# Altium schematic symbol library ZX_MyLib.SchLib: 567 symbols (part 5 of 5)
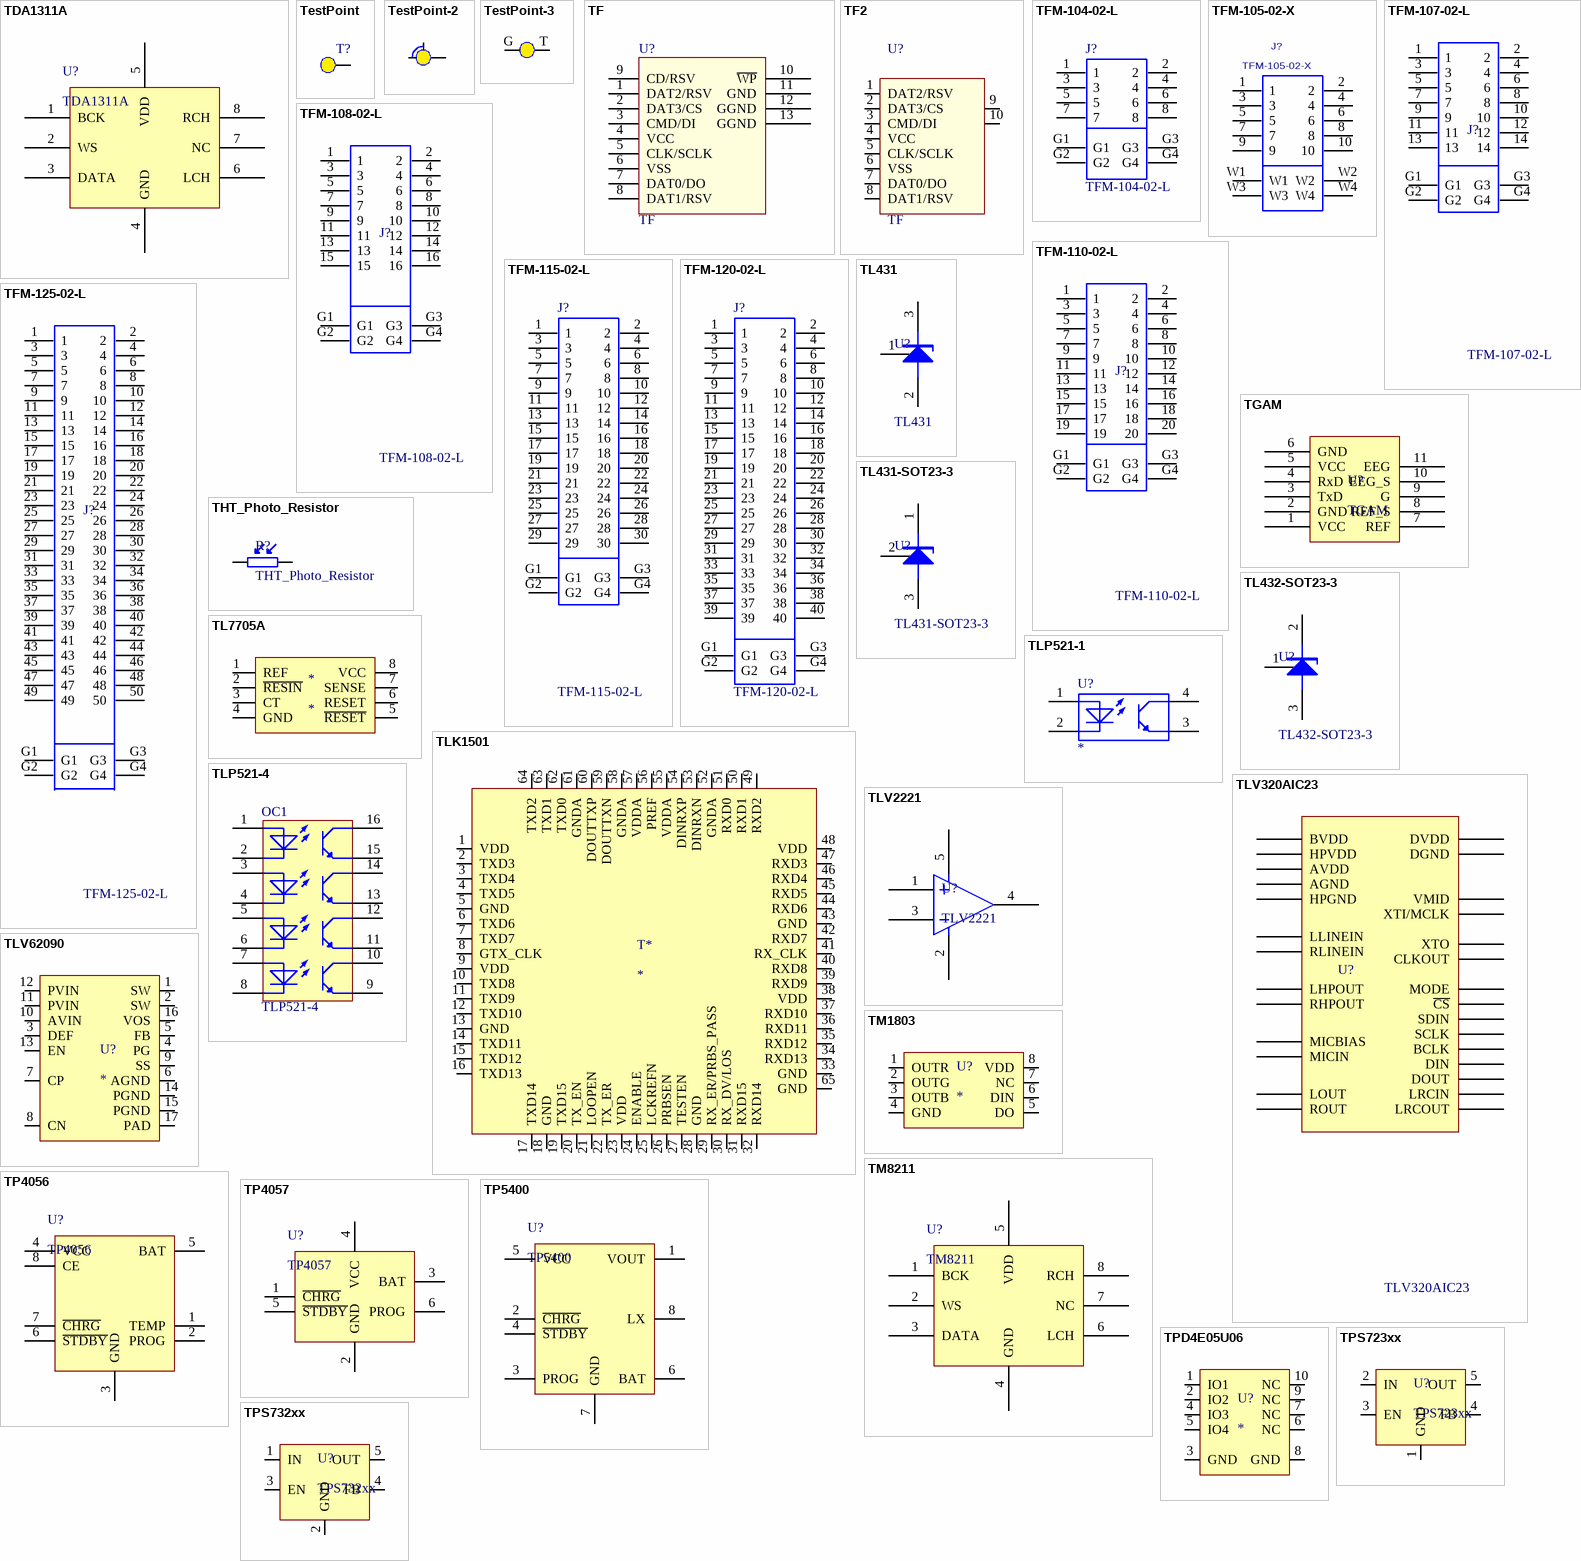
[diagram p34: symbols TDA1311A to TPS732xx]

## TM1803
designator U?
TM1803 / WS2811
footprint SOP-8_M (8-Pin Small Outline Integrated Circuit 1.27 mm Pitch, IPC Low Density)
footprint MSOP8
pins: 1 OUTR, 2 OUTG, 3 OUTB, 4 GND, 5 DO, 6 DIN, 7 NC, 8 VDD

## TM8211
designator U?
Stereo Continuous Calibration DAC
footprint SOP-8_N (8-Pin Small Outline Integrated Circuit 1.27 mm Pitch, IPC Medium Density)
footprint SOP-8_M (8-Pin Small Outline Integrated Circuit 1.27 mm Pitch, IPC Low Density)
footprint SOP-8_L (8-Pin Small Outline Integrated Circuit 1.27 mm Pitch, IPC High Density)
pins: 1 BCK "bit clock input", 2 WS "word select input", 3 DATA "data input", 4 GND "ground", 5 VDD "supply voltage", 6 LCH "left channel output", 7 NC "not connected", 8 RCH "right channel output"

## TP4056
designator U?
1A lithium-ion battery linear charger, LDO
footprint TP4056
pins: 1 TEMP, 2 PROG, 3 GND, 4 VCC, 5 BAT, 6 ~{STDBY}, 7 ~{CHRG}, 8 CE

## TP4057
designator U?
500mA lithium-ion battery linear charger, LDO
footprint SOT23-6 (SOT-457/SC-74; 6 Leads; Body 3 x 3 mm, inc. leads (LxW max))
pins: 1 ~{CHRG}, 2 GND, 3 BAT, 4 VCC, 5 ~{STDBY}, 6 PROG

## TP5400
designator U?
1A lithium-ion battery And  5V/1A Boost control IC, DC/DC
footprint TP5400 (TP5400 SOP8 With Pad)
pins: 1 VOUT, 2 ~{CHRG}, 3 PROG, 4 ~{STDBY}, 5 VCC, 6 BAT, 7 GND, 8 LX

## TPD4E05U06
designator U?
pins: 1 IO1, 2 IO2, 3 GND, 4 IO3, 5 IO4, 6 NC, 7 NC, 8 GND, 9 NC, 10 NC

## TPS723xx
designator U?
footprint TPS72301
pins: 1 GND, 2 IN, 3 EN, 4 FB, 5 OUT

## TPS732xx
designator U?
footprint TPS73201
pins: 1 IN, 2 GND, 3 EN, 4 FB, 5 OUT

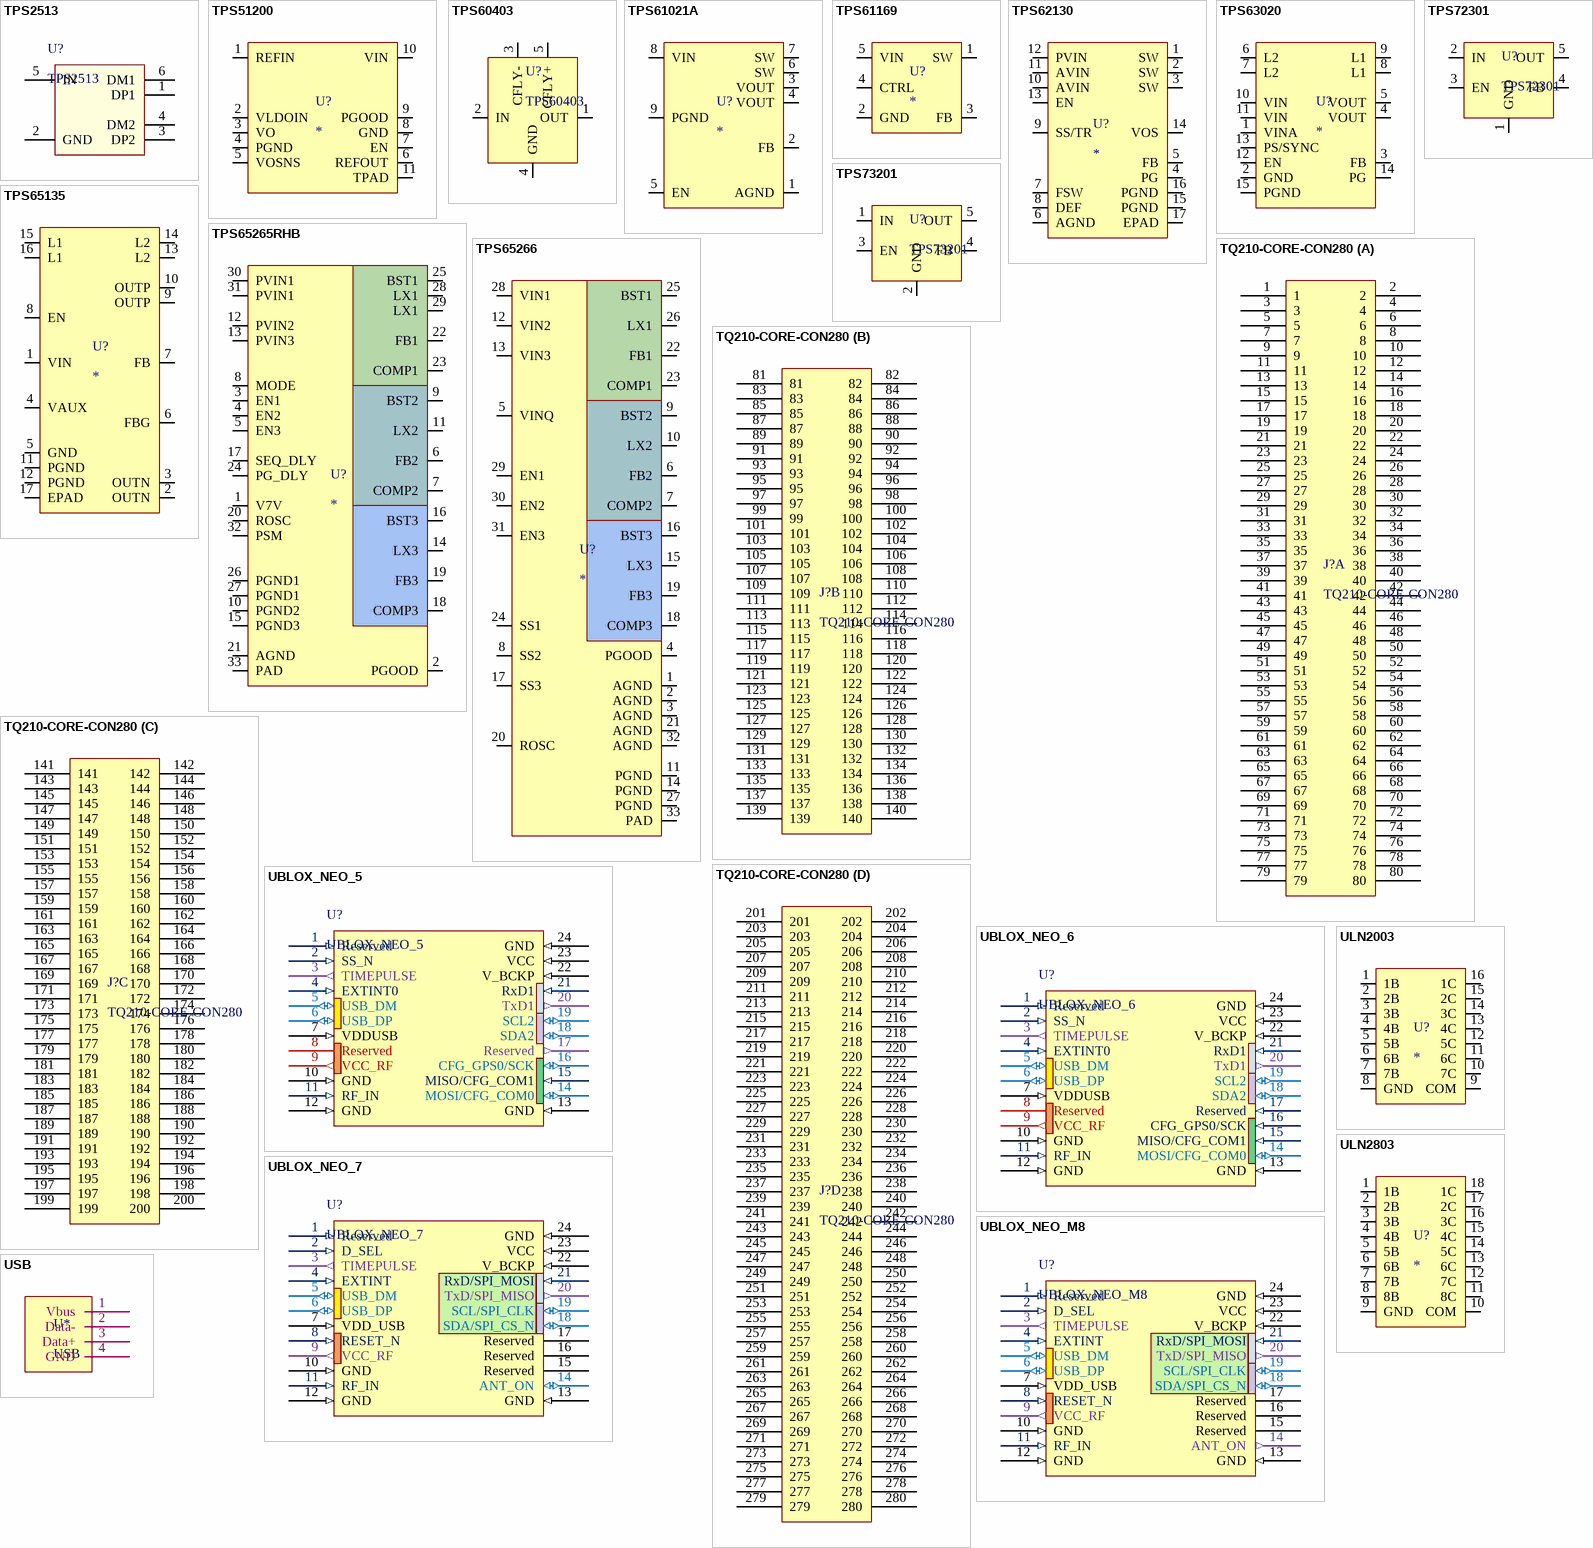
[diagram p28: symbols TPS2513 to USB]

## TPS2513
designator U?
USB Dedicated Charging Port Controller
footprint SOT23-6 (SOT-457/SC-74; 6 Leads; Body 3 x 3 mm, inc. leads (LxW max))
pins: 1 DP1, 2 GND, 3 DP2, 4 DM2, 5 IN, 6 DM1

## TPS51200
designator U?
footprint VSON-10 (3x3mm)
pins: 1 REFIN, 2 VLDOIN, 3 VO, 4 PGND, 5 VOSNS, 6 REFOUT, 7 EN, 8 GND, 9 PGOOD, 10 VIN, 11 TPAD

## TPS60403
designator U?
footprint TPS60403
pins: 1 OUT, 2 IN, 3 CFLY-, 4 GND, 5 CFLY+

## TPS61021A
designator U?
pins: 1 AGND, 2 FB, 3 VOUT, 4 VOUT, 5 EN, 6 SW, 7 SW, 8 VIN, 9 PGND

## TPS61169
designator U?
采用PWM控制的38V高电流升压WLED驱动器
footprint SOT23-5 (SOT-23/SC-74A; 5 Leads; Body 3 x 3 mm, inc. leads (LxW max))
footprint DCK-5
pins: 1 SW, 2 GND, 3 FB, 4 CTRL, 5 VIN

## TPS62130
designator U?
footprint QFN16
pins: 1 SW, 2 SW, 3 SW, 4 PG, 5 FB, 6 AGND, 7 FSW, 8 DEF, 9 SS/TR, 10 AVIN, 11 AVIN, 12 PVIN, 13 EN, 14 VOS, 15 PGND, 16 PGND, 17 EPAD

## TPS63020
designator U?
footprint VSON-14
pins: 1 VINA, 2 GND, 3 FB, 4 VOUT, 5 VOUT, 6 L2, 7 L2, 8 L1, 9 L1, 10 VIN, 11 VIN, 12 EN, 13 PS/SYNC, 14 PG, 15 PGND

## TPS65135
designator U?
footprint WQFN-16
pins: 1 VIN, 2 OUTN, 3 OUTN, 4 VAUX, 5 GND, 6 FBG, 7 FB, 8 EN, 9 OUTP, 10 OUTP, 11 PGND, 12 PGND, 13 L2, 14 L2, 15 L1, 16 L1, 17 EPAD

## TPS65265RHB
designator U?
footprint QFN32_N (32-Pin Quad Flat No-Lead 0.5 mm Pitch, IPC Medium Density)
pins: 1 V7V, 2 PGOOD, 3 EN1, 4 EN2, 5 EN3, 6 FB2, 7 COMP2, 8 MODE, 9 BST2, 10 PGND2, 11 LX2, 12 PVIN2, 13 PVIN3, 14 LX3, 15 PGND3, 16 BST3, 17 SEQ_DLY, 18 COMP3, 19 FB3, 20 ROSC, 21 AGND, 22 FB1, 23 COMP1, 24 PG_DLY, 25 BST1, 26 PGND1, 27 PGND1, 28 LX1, 29 LX1, 30 PVIN1, 31 PVIN1, 32 PSM, 33 PAD

## TPS65266
designator U?
footprint QFN32_N (32-Pin Quad Flat No-Lead 0.5 mm Pitch, IPC Medium Density)
pins: 1 AGND, 2 AGND, 3 AGND, 4 PGOOD, 5 VINQ, 6 FB2, 7 COMP2, 8 SS2, 9 BST2, 10 LX2, 11 PGND, 12 VIN2, 13 VIN3, 14 PGND, 15 LX3, 16 BST3, 17 SS3, 18 COMP3, 19 FB3, 20 ROSC, 21 AGND, 22 FB1, 23 COMP1, 24 SS1, 25 BST1, 26 LX1, 27 PGND, 28 VIN1, 29 EN1, 30 EN2, 31 EN3, 32 AGND, 33 PAD

## TPS72301
designator U?
footprint TPS72301
pins: 1 GND, 2 IN, 3 EN, 4 FB, 5 OUT

## TPS73201
designator U?
footprint TPS73201
pins: 1 IN, 2 GND, 3 EN, 4 FB, 5 OUT

## TQ210-CORE-CON280
designator J?
footprint TQ210-CORE-CON280
part A pins: 1, 2, 3, 4, 5, 6, 7, 8, 9, 10, 11, 12, 13, 14, 15, 16, 17, 18, 19, 20, 21, 22, 23, 24, 25, 26, 27, 28, 29, 30, 31, 32, 33, 34, 35, 36, 37, 38, 39, 40, 41, 42, 43, 44, 45, 46, 47, 48, 49, 50, 51, 52, 53, 54, 55, 56, 57, 58, 59, 60, 61, 62, 63, 64, 65, 66, 67, 68, 69, 70, 71, 72, 73, 74, 75, 76, 77, 78, 79, 80
part B pins: 81, 82, 83, 84, 85, 86, 87, 88, 89, 90, 91, 92, 93, 94, 95, 96, 97, 98, 99, 100, 101, 102, 103, 104, 105, 106, 107, 108, 109, 110, 111, 112, 113, 114, 115, 116, 117, 118, 119, 120, 121, 122, 123, 124, 125, 126, 127, 128, 129, 130, 131, 132, 133, 134, 135, 136, 137, 138, 139, 140
part C pins: 141, 142, 143, 144, 145, 146, 147, 148, 149, 150, 151, 152, 153, 154, 155, 156, 157, 158, 159, 160, 161, 162, 163, 164, 165, 166, 167, 168, 169, 170, 171, 172, 173, 174, 175, 176, 177, 178, 179, 180, 181, 182, 183, 184, 185, 186, 187, 188, 189, 190, 191, 192, 193, 194, 195, 196, 197, 198, 199, 200
part D pins: 201, 202, 203, 204, 205, 206, 207, 208, 209, 210, 211, 212, 213, 214, 215, 216, 217, 218, 219, 220, 221, 222, 223, 224, 225, 226, 227, 228, 229, 230, 231, 232, 233, 234, 235, 236, 237, 238, 239, 240, 241, 242, 243, 244, 245, 246, 247, 248, 249, 250, 251, 252, 253, 254, 255, 256, 257, 258, 259, 260, 261, 262, 263, 264, 265, 266, 267, 268, 269, 270, 271, 272, 273, 274, 275, 276, 277, 278, 279, 280

## UBLOX_NEO_5
designator U?
UBLOX NEO 5,6,7,M8 Module
footprint UBLOX-NEO (UBLOX GPS Module NEO 5,6,7,M8)
pins: 1 Reserved (in), 2 SS_N (in) "SPI Slave Select (Planned)", 3 TIMEPULSE (out) "Time pulse (1PPS)", 4 EXTINT0 (in) "External Interrupt Pin", 5 USB_DM (io) "USB Data", 6 USB_DP (io) "USB Data", 7 VDDUSB (in) "USB Supply", 8 Reserved "See Hardware Integration Manual, Pin 8 and 9 must be connected together.", 9 VCC_RF (out) "Output Voltage RF section, Pin 8 and 9 must be connected together.", 10 GND (in) "Ground", 11 RF_IN (in) "GPS signal input", 12 GND (in) "Ground", 13 GND (in) "Ground", 14 MOSI/CFG_COM0 (io) "SPI MOSI / Configuration Pin (Planned)", 15 MISO/CFG_COM1 (in) "SPI MISO (Planned) / Configuration Pin. Leave open if not used.", 16 CFG_GPS0/SCK (io) "Power Mode Configuration Pin. SPI Clock(Planned)", 17 Reserved (out) "Not Connected", 18 SDA2 (io) "DDC Data", 19 SCL2 (io) "DDC Clock", 20 TxD1 (out) "Serial Port 1", 21 RxD1 (in) "Serial Port 1", 22 V_BCKP (in) "Backup voltage supply", 23 VCC (in) "Supply voltage", 24 GND (in) "Ground"

## UBLOX_NEO_6
designator U?
UBLOX NEO 5,6,7,M8 Module
footprint UBLOX-NEO (UBLOX GPS Module NEO 5,6,7,M8)
pins: 1 Reserved (in), 2 SS_N (in) "SPI Slave Select", 3 TIMEPULSE (out) "Timepulse (1PPS)", 4 EXTINT0 (in) "External Interrupt Pin", 5 USB_DM (io) "USB Data", 6 USB_DP (io) "USB Data", 7 VDDUSB (in) "USB Supply", 8 Reserved "See Hardware Integration Manual, Pin 8 and 9 must be connected together.", 9 VCC_RF (out) "Output Voltage RF section, Pin 8 and 9 must be connected together.", 10 GND (in) "Ground", 11 RF_IN (in) "GPS signal input", 12 GND (in) "Ground", 13 GND (in) "Ground", 14 MOSI/CFG_COM0 (io) "SPI MOSI / Configuration Pin. Leave open if not used.", 15 MISO/CFG_COM1 (in) "SPI MISO / Configuration Pin. Leave open if not used.", 16 CFG_GPS0/SCK (in) "Power Mode Configuration Pin / SPI Clock. Leave open if not used.", 17 Reserved (in), 18 SDA2 (io) "DDC Data", 19 SCL2 (io) "DDC Clock", 20 TxD1 (out) "Serial Port 1", 21 RxD1 (in) "Serial Port 1", 22 V_BCKP (in) "Backup voltage supply", 23 VCC (in) "Supply voltage", 24 GND (in) "Ground"

## UBLOX_NEO_7
designator U?
UBLOX NEO 5,6,7,M8 Module
footprint UBLOX-NEO (UBLOX GPS Module NEO 5,6,7,M8)
pins: 1 Reserved (in), 2 D_SEL (in) "Interface select", 3 TIMEPULSE (out) "Time pulse (1PPS)", 4 EXTINT (in) "External Interrupt Pin", 5 USB_DM (io) "USB Data", 6 USB_DP (io) "USB Data", 7 VDD_USB (in) "USB Supply", 8 RESET_N (in), 9 VCC_RF (out) "Output Voltage RF section", 10 GND (in) "Ground", 11 RF_IN (in) "GNSS signal input", 12 GND (in) "Ground", 13 GND (in) "Ground", 14 ANT_ON (io) "Antenna control", 15 Reserved, 16 Reserved, 17 Reserved, 18 SDA/SPI_CS_N (io) "DDC Data if D_SEL =1 (or open) SPI Chip Select if D_SEL = 0", 19 SCL/SPI_CLK (io) "DDC Clock if D_SEL =1(or open) SPI Clock if D_SEL = 0", 20 TxD/SPI_MISO (out) "Serial Port if D_SEL =1(or open) SPI MISO if D_SEL = 0", 21 RxD/SPI_MOSI (in) "Serial Port if D_SEL =1(or open) SPI MOSI if D_SEL = 0", 22 V_BCKP (in) "Backup voltage supply", 23 VCC (in) "Supply voltage", 24 GND (in) "Ground"

## UBLOX_NEO_M8
designator U?
UBLOX NEO 5,6,7,M8 Module
footprint UBLOX-NEO (UBLOX GPS Module NEO 5,6,7,M8)
pins: 1 Reserved (in), 2 D_SEL (in) "Interface select", 3 TIMEPULSE (out) "Time pulse (1PPS)", 4 EXTINT (in) "External Interrupt Pin", 5 USB_DM (io) "USB Data", 6 USB_DP (io) "USB Data", 7 VDD_USB (in) "USB Supply", 8 RESET_N (in), 9 VCC_RF (out) "Output Voltage RF section", 10 GND (in) "Ground", 11 RF_IN (in) "GNSS signal input", 12 GND (in) "Ground", 13 GND (in) "Ground", 14 ANT_ON (out) "Antenna control", 15 Reserved, 16 Reserved, 17 Reserved, 18 SDA/SPI_CS_N (io) "DDC Data if D_SEL =1 (or open) SPI Chip Select if D_SEL = 0", 19 SCL/SPI_CLK (io) "DDC Clock if D_SEL =1(or open) SPI Clock if D_SEL = 0", 20 TxD/SPI_MISO (out) "Serial Port if D_SEL =1(or open) SPI MISO if D_SEL = 0", 21 RxD/SPI_MOSI (in) "Serial Port if D_SEL =1(or open) SPI MOSI if D_SEL = 0", 22 V_BCKP (in) "Backup voltage supply", 23 VCC (in) "Supply voltage", 24 GND (in) "Ground"

## ULN2003
designator U?
footprint SOP-16 - duplicate (16-Pin Small Outline Integrated Circuit 1.27 mm Pitch, IPC Low Density)
pins: 1 1B, 2 2B, 3 3B, 4 4B, 5 5B, 6 6B, 7 7B, 8 GND, 9 COM, 10 7C, 11 6C, 12 5C, 13 4C, 14 3C, 15 2C, 16 1C

## ULN2803
designator U?
pins: 1 1B, 2 2B, 3 3B, 4 4B, 5 5B, 6 6B, 7 7B, 8 8B, 9 GND, 10 COM, 11 8C, 12 7C, 13 6C, 14 5C, 15 4C, 16 3C, 17 2C, 18 1C

## USB
designator U*
footprint USB-B
footprint USB-A 180D
pins: 1 Vbus, 2 Data-, 3 Data+, 4 GND

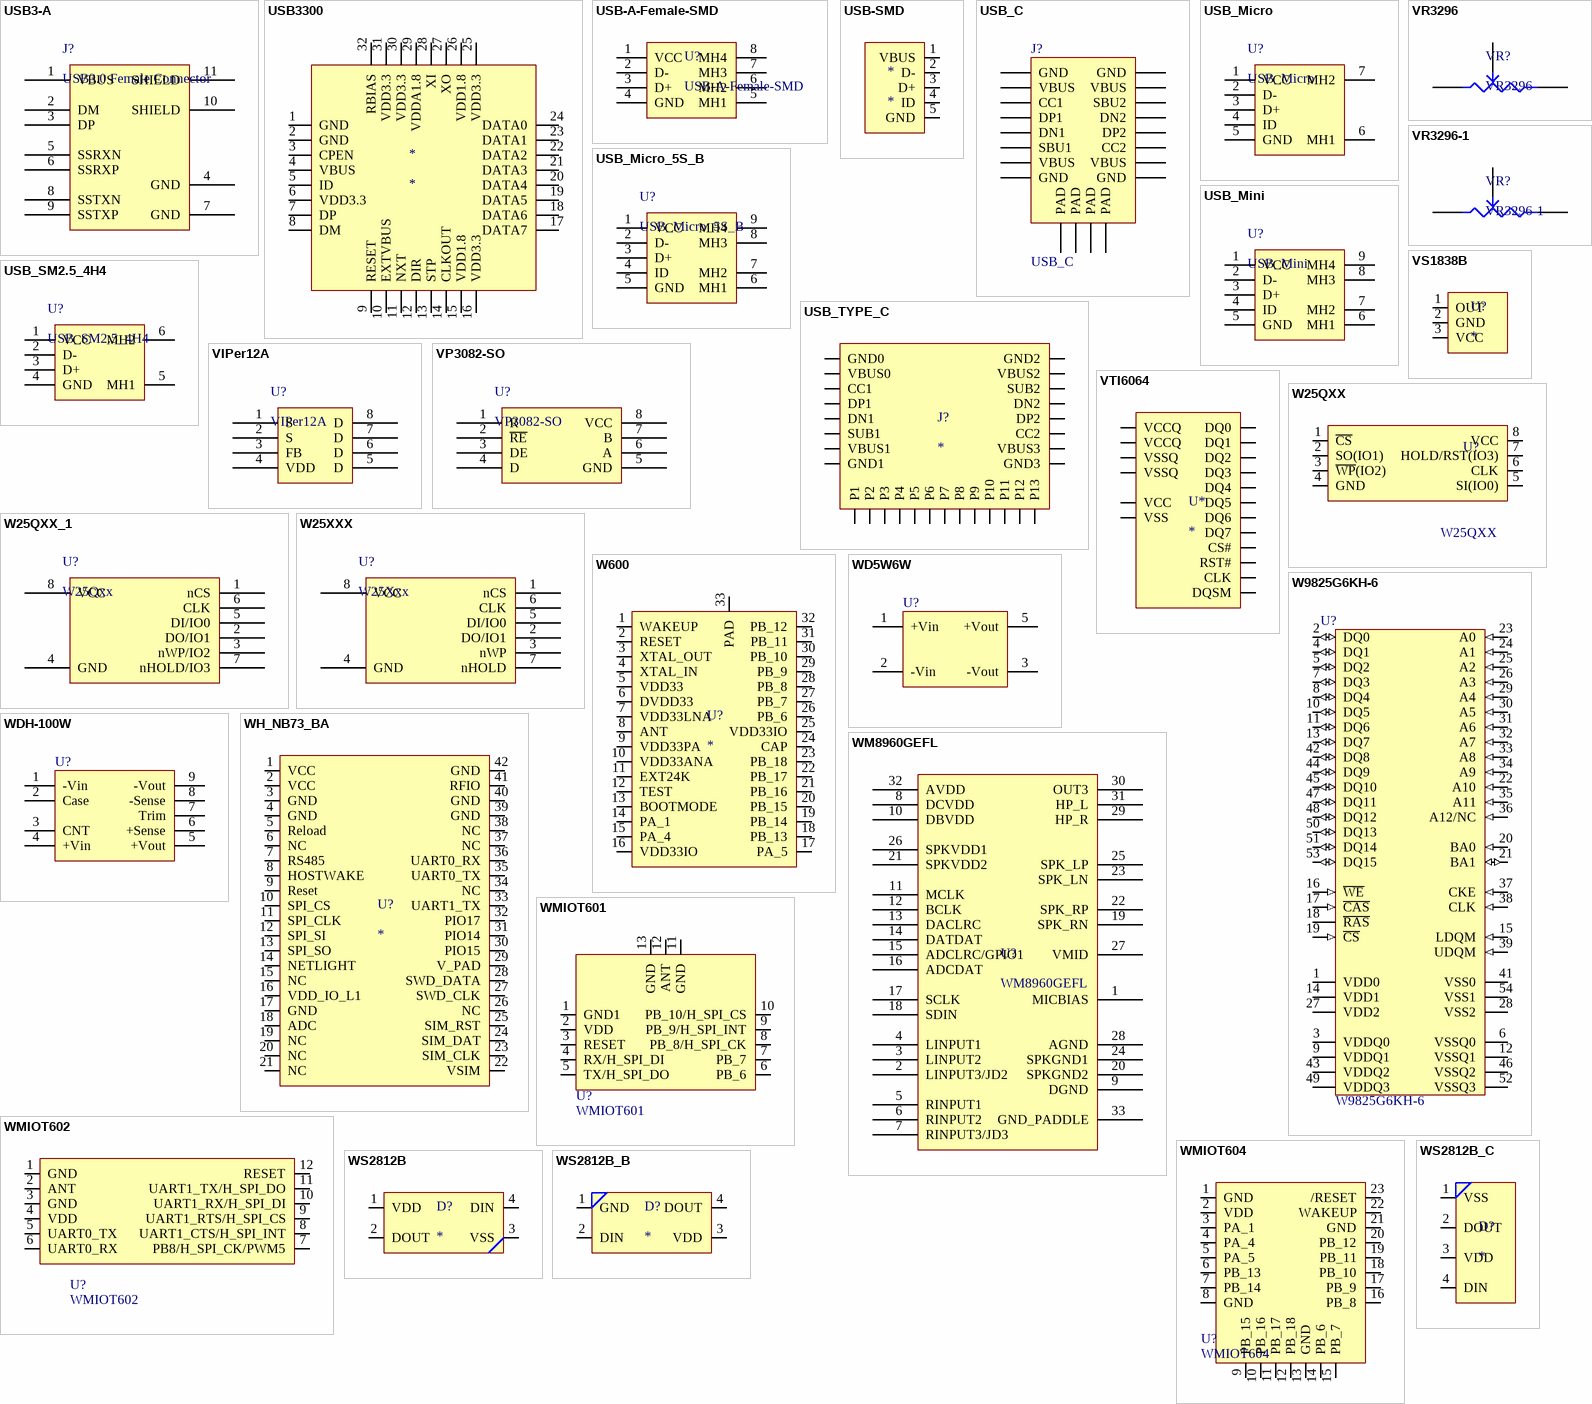
[diagram p29: symbols USB3-A to WS2812B_C]

## USB3-A
designator J?, comment USB3.0 Female Connector
footprint USB3-A (USB3.0 Connector)
pins: 1 VBUS, 2 DM, 3 DP, 4 GND, 5 SSRXN, 6 SSRXP, 7 GND, 8 SSTXN, 9 SSTXP, 10 SHIELD, 11 SHIELD

## USB3300
designator *
footprint QFN32
pins: 1 GND, 2 GND, 3 CPEN, 4 VBUS, 5 ID, 6 VDD3.3, 7 DP, 8 DM, 9 RESET, 10 EXTVBUS, 11 NXT, 12 DIR, 13 STP, 14 CLKOUT, 15 VDD1.8, 16 VDD3.3, 17 DATA7, 18 DATA6, 19 DATA5, 20 DATA4, 21 DATA3, 22 DATA2, 23 DATA1, 24 DATA0, 25 VDD3.3, 26 VDD1.8, 27 XO, 28 XI, 29 VDDA1.8, 30 VDD3.3, 31 VDD3.3, 32 RBIAS

## USB-A-Female-SMD
designator U?
footprint USB-A-SMD
pins: 1 VCC, 2 D-, 3 D+, 4 GND, 5 MH1, 6 MH2, 7 MH3, 8 MH4

## USB-SMD
designator *
footprint USB-MINI
pins: 1 VBUS, 2 D-, 3 D+, 4 ID, 5 GND

## USB_C
designator J?
USB type C 3.1 connector
footprint USB_C_U262-16XN-4BVC11 (U262-16XN-4BVC11 USB TYPE-C FEMALE)
pins: 0 PAD, 1 PAD, 2 PAD, 3 PAD, A1 GND, A4 VBUS, A5 CC1, A6 DP1, A7 DN1, A8 SBU1, A9 VBUS, A12 GND, B1 GND, B4 VBUS, B5 CC2, B6 DP2, B7 DN2, B8 SBU2, B9 VBUS, B12 GND

## USB_Micro
designator U?
USB micro female
footprint USB_Micro_Reverse (Micro USB Dock 5 Pin Reverse)
footprint USB_Micro_Standard (Micro USB Dock 5 Pin Standard)
pins: 1 VCC, 2 D-, 3 D+, 4 ID, 5 GND, 6 MH1, 7 MH2

## USB_Micro_5S_B
designator U?
USB micro female SMT with 4 fixed foot
footprint USB_MICRO_5S_B (USB Micro SMT 5S B)
footprint USB_MICRO_SMT_2PIN (USB MICRO SMT 2PIN)
pins: 1 VCC, 2 D-, 3 D+, 4 ID, 5 GND, 6 MH1, 7 MH2, 8 MH3, 9 MH4

## USB_Mini
designator U?
USB mini female
footprint USB_MINI1 (USB Mini SMT)
pins: 1 VCC, 2 D-, 3 D+, 4 ID, 5 GND, 6 MH1, 7 MH2, 8 MH3, 9 MH4

## USB_SM2.5_4H4
designator U?
USB SM2.5-4H4 Connector
footprint USB_SM2.5_4H4 (Connector; USB1.1, Type A, SM; 4 Position; Right Angle)
pins: 1 VCC, 2 D-, 3 D+, 4 GND, 5 MH1, 6 MH2

## USB_TYPE_C
designator J?
footprint USB_TYPE_C
footprint USB_TYPE_C_SMD (表贴)
pins: A1 GND0, A4 VBUS0, A5 CC1, A6 DP1, A7 DN1, A8 SUB1, A9 VBUS1, A12 GND1, B1 GND3, B4 VBUS3, B5 CC2, B6 DP2, B7 DN2, B8 SUB2, B9 VBUS2, B12 GND2, P1, P2, P3, P4, P5, P6, P7, P8, P9, P10, P11, P12, P13

## VIPer12A
designator U?
VIPer12A   September 2002  1/15 VIPer12ADIPVIPer12AS  LOW POWER OFF LINE SMPS PRIMARY SWITCHER
footprint VIPer12A-DIP8 (VIPer12A)
pins: 1 S, 2 S, 3 FB, 4 VDD, 5 D, 6 D, 7 D, 8 D

## VP3082-SO
designator U?
footprint VP3082-485 (485)
pins: 1 R, 2 ~{RE}, 3 DE, 4 D, 5 GND, 6 A, 7 B, 8 VCC

## VR3296
designator VR?
footprint VR3296
pins: 1 A, 2 B, W TAP

## VR3296-1
designator VR?
footprint VR3296-1
pins: 1 A, 2 B, W TAP

## VS1838B
designator U?
footprint vs1838b
pins: 1 OUT, 2 GND, 3 VCC

## VTI6064
designator U*
footprint FBGA24
pins: A3 CS#, A4 RST#, B2 CLK, B3 VSS, B4 VCC, C1 VSSQ, C3 DQSM, C4 DQ2, D1 VCCQ, D2 DQ1, D3 DQ0, D4 DQ3, D5 DQ4, E1 DQ7, E2 DQ6, E3 DQ5, E4 VCCQ, E5 VSSQ

## W25QXX
designator U?
footprint SOIC-8 (SOIC)
footprint WSON8 (WSON8 8-Leads, Body 6.1x8.1mm (max), Pitch 1.27mm, IPC Medium Density)
pins: 1 ~{CS}, 2 SO(IO1), 3 ~{WP}(IO2), 4 GND, 5 SI(IO0) (power), 6 CLK, 7 HOLD/RST(IO3) (power), 8 VCC

## W25QXX_1
designator U?, comment W25Qxx
Serial flash memory with dual and quad SPI
footprint WSOP-8 (8-Pin Small Outline Package 1.27 mm Pitch, IPC Medium Density)
footprint DIP-8 (DIP8封装，100mil间距，300mil引脚宽度)
footprint SOP-8 (8-Pin Small Outline Integrated Circuit 1.27 mm Pitch, IPC Low Density)
footprint USON-8N
pins: 1 nCS "Chip Select Input", 2 DO/IO1 "Data Output (Data Input Output 1)", 3 nWP/IO2 "Write Protect Input ( Data Input Output 2)", 4 GND, 5 DI/IO0 "Data Input (Data Input Output 0)", 6 CLK "Serial Clock Input", 7 nHOLD/IO3 "Hold Input (Data Input Output 3)", 8 VCC

## W25XXX
designator U?, comment W25Xxx
Serial flash memory with 4kB sectors and dual I/O SPI
footprint DIP-8 (DIP8封装，100mil间距，300mil引脚宽度)
footprint SOP-8 (8-Pin Small Outline Integrated Circuit 1.27 mm Pitch, IPC Low Density)
footprint USON-8N
footprint WSOP-8 (8-Pin Small Outline Package 1.27 mm Pitch, IPC Medium Density)
pins: 1 nCS "Chip Select Input", 2 DO/IO1 "Data Output (Data Input Output 1)", 3 nWP "Write Protect Input", 4 GND, 5 DI/IO0 "Data Input (Data Input Output 0)", 6 CLK "Serial Clock Input", 7 nHOLD "Hold Input", 8 VCC

## W600
designator U?
footprint QFN32_N (32-Pin Quad Flat No-Lead 0.5 mm Pitch, IPC Medium Density)
pins: 1 WAKEUP, 2 RESET, 3 XTAL_OUT, 4 XTAL_IN, 5 VDD33, 6 DVDD33, 7 VDD33LNA, 8 ANT, 9 VDD33PA, 10 VDD33ANA, 11 EXT24K, 12 TEST, 13 BOOTMODE, 14 PA_1, 15 PA_4, 16 VDD33IO, 17 PA_5, 18 PB_13, 19 PB_14, 20 PB_15, 21 PB_16, 22 PB_17, 23 PB_18, 24 CAP, 25 VDD33IO, 26 PB_6, 27 PB_7, 28 PB_8, 29 PB_9, 30 PB_10, 31 PB_11, 32 PB_12, 33 PAD

## W9825G6KH-6
designator U?
32MB SDRAM
footprint TSOP54
pins: 1 VDD0 (power), 2 DQ0 (io), 3 VDDQ0 (power), 4 DQ1 (io), 5 DQ2 (io), 6 VSSQ0 (power), 7 DQ3 (io), 8 DQ4 (io), 9 VDDQ1 (power), 10 DQ5 (io), 11 DQ6 (io), 12 VSSQ1 (power), 13 DQ7 (io), 14 VDD1 (power), 15 LDQM (in), 16 ~{WE} (in), 17 ~{CAS} (in), 18 ~{RAS}, 19 ~{CS} (in), 20 BA0 (in), 21 BA1 (io), 22 A10 (in), 23 A0 (in), 24 A1 (in), 25 A2 (in), 26 A3 (in), 27 VDD2 (power), 28 VSS2 (power), 29 A4 (in), 30 A5 (in), 31 A6 (in), 32 A7 (in), 33 A8 (in), 34 A9 (in), 35 A11 (in), 36 A12/NC (in), 37 CKE (in), 38 CLK (in), 39 UDQM (in), 41 VSS0 (power), 42 DQ8 (io), 43 VDDQ2 (power), 44 DQ9 (io), 45 DQ10 (io), 46 VSSQ2 (power), 47 DQ11 (io), 48 DQ12 (io), 49 VDDQ3 (power), 50 DQ13 (io), 51 DQ14 (io), 52 VSSQ3 (power), 53 DQ15 (io), 54 VSS1 (power)
2 alternate drawings of the same symbol

## WD5W6W
designator U?
footprint WD5W6W
pins: 1 +Vin, 2 -Vin, 3 -Vout, 5 +Vout

## WDH-100W
designator U?
footprint WDH-100W
pins: 1 -Vin, 2 Case, 3 CNT, 4 +Vin, 5 +Vout, 6 +Sense, 7 Trim, 8 -Sense, 9 -Vout

## WH_NB73_BA
designator U?
footprint WH_NB73_BA (Footprint not found)
pins: 1 VCC, 2 VCC, 3 GND, 4 GND, 5 Reload, 6 NC, 7 RS485, 8 HOSTWAKE, 9 Reset, 10 SPI_CS, 11 SPI_CLK, 12 SPI_SI, 13 SPI_SO, 14 NETLIGHT, 15 NC, 16 VDD_IO_L1, 17 GND, 18 ADC, 19 NC, 20 NC, 21 NC, 22 VSIM, 23 SIM_CLK, 24 SIM_DAT, 25 SIM_RST, 26 NC, 27 SWD_CLK, 28 SWD_DATA, 29 V_PAD, 30 PIO15, 31 PIO14, 32 PIO17, 33 UART1_TX, 34 NC, 35 UART0_TX, 36 UART0_RX, 37 NC, 38 NC, 39 GND, 40 GND, 41 RFIO, 42 GND

## WM8960GEFL
designator U?
Stereo CODEC with 1W Stereo Class D Speaker Drivers and  Headphone Drivers for Portable Audio Applications
footprint WM8960GEFL
pins: 1 MICBIAS, 2 LINPUT3/JD2, 3 LINPUT2, 4 LINPUT1, 5 RINPUT1, 6 RINPUT2, 7 RINPUT3/JD3, 8 DCVDD, 9 DGND, 10 DBVDD, 11 MCLK, 12 BCLK, 13 DACLRC, 14 DATDAT, 15 ADCLRC/GPIO1, 16 ADCDAT, 17 SCLK, 18 SDIN, 19 SPK_RN, 20 SPKGND2, 21 SPKVDD2, 22 SPK_RP, 23 SPK_LN, 24 SPKGND1, 25 SPK_LP, 26 SPKVDD1, 27 VMID, 28 AGND, 29 HP_R, 30 OUT3, 31 HP_L, 32 AVDD, 33 GND_PADDLE

## WMIOT601
designator U?
footprint WMIOT601
pins: 1 GND1, 2 VDD, 3 RESET, 4 RX/H_SPI_DI, 5 TX/H_SPI_DO, 6 PB_6, 7 PB_7, 8 PB_8/H_SPI_CK, 9 PB_9/H_SPI_INT, 10 PB_10/H_SPI_CS, 11 GND, 12 ANT, 13 GND

## WMIOT602
designator U?
footprint WMIOT602
pins: 1 GND, 2 ANT, 3 GND, 4 VDD, 5 UART0_TX, 6 UART0_RX, 7 PB8/H_SPI_CK/PWM5, 8 UART1_CTS/H_SPI_INT, 9 UART1_RTS/H_SPI_CS, 10 UART1_RX/H_SPI_DI, 11 UART1_TX/H_SPI_DO, 12 RESET

## WMIOT604
designator U?
footprint WMIOT604
pins: 1 GND, 2 VDD, 3 PA_1, 4 PA_4, 5 PA_5, 6 PB_13, 7 PB_14, 8 GND, 9 PB_15, 10 PB_16, 11 PB_17, 12 PB_18, 13 GND, 14 PB_6, 15 PB_7, 16 PB_8, 17 PB_9, 18 PB_10, 19 PB_11, 20 PB_12, 21 GND, 22 WAKEUP, 23 /RESET

## WS2812B
designator D?
footprint WS2812B (WS2812B，与SK6812封装通用)
pins: 1 VDD, 2 DOUT, 3 VSS, 4 DIN

## WS2812B_B
designator D?
封装管脚开口方向
footprint WS2812B_3535 (WS2812B-3535封装)
pins: 1 GND, 2 DIN, 3 VDD, 4 DOUT

## WS2812B_C
designator D?
封装管脚开口方向,4020封装，立式侧发光
footprint WS2812B_4020 (4020侧发光全彩RGB发光管)
pins: 1 VSS, 2 DOUT, 3 VDD, 4 DIN

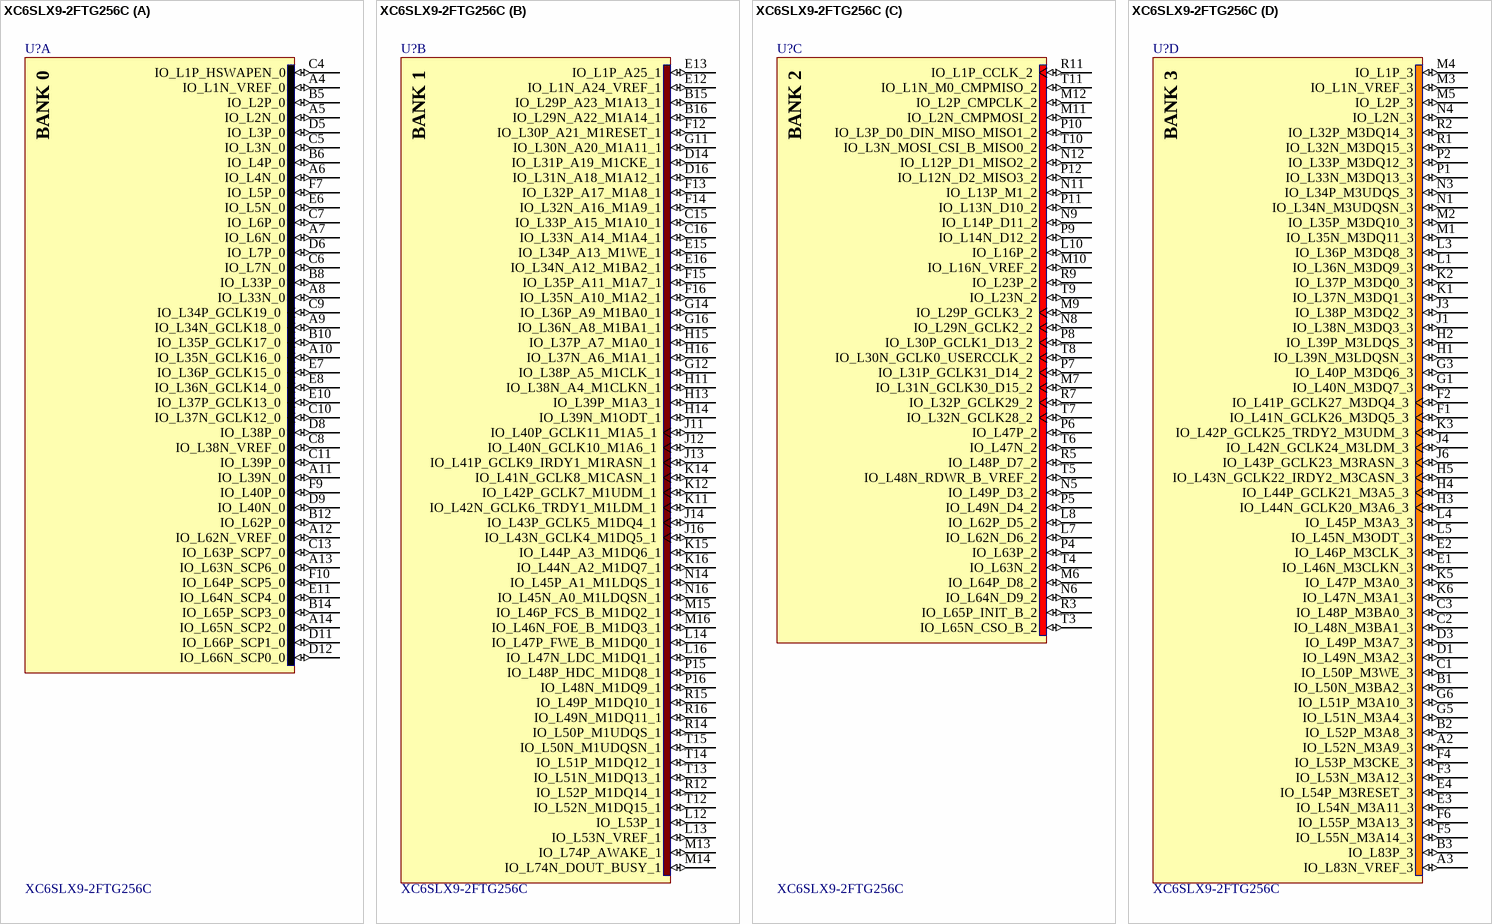
[diagram p30: symbol XC6SLX9-2FTG256C]

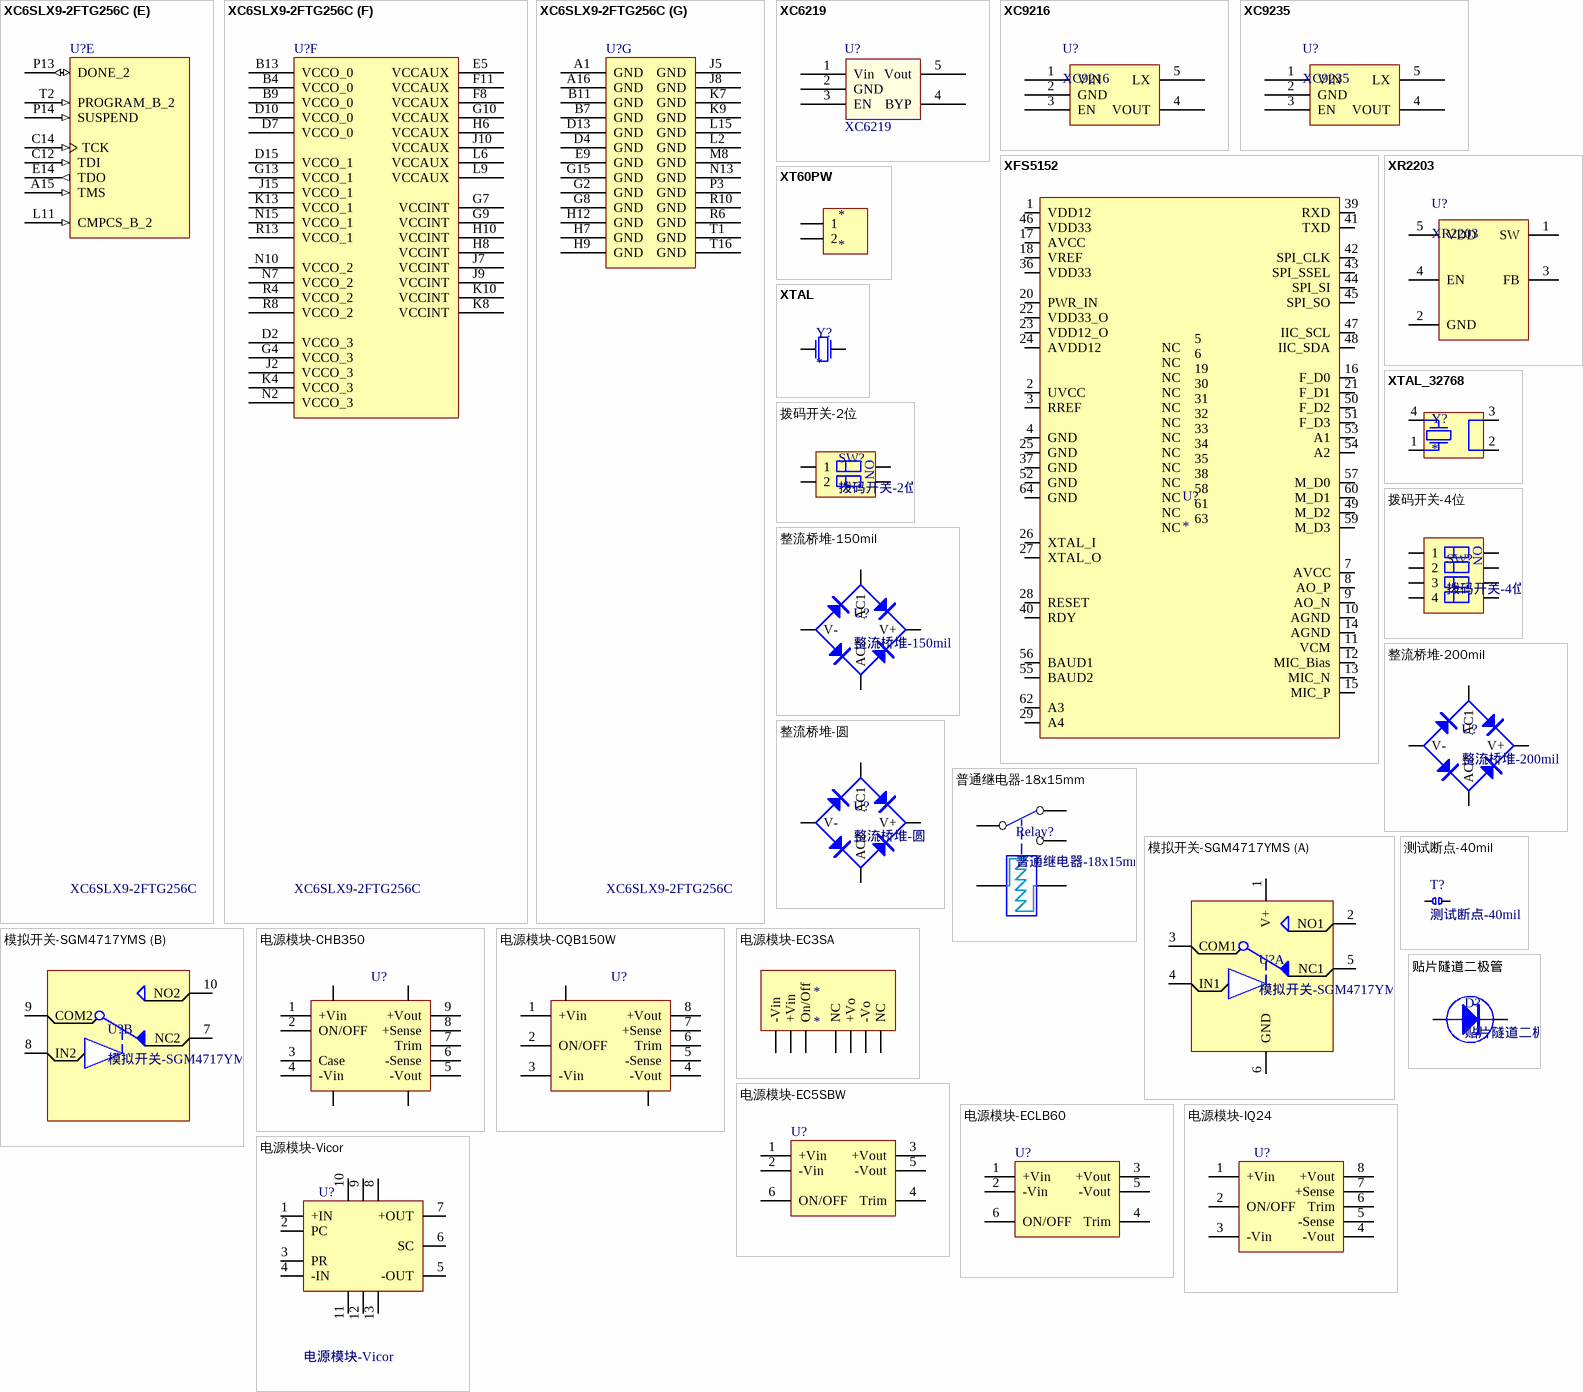
[diagram p31: symbols XC6SLX9-2FTG256C to 贴片隧道二极管]

## XC6SLX9-2FTG256C
designator U?
Spartan-6 LX 1.2V FPGA, 186 User I/Os, 256-Ball Fine-Pitch Thin BGA (1.0mm Pitch), Speed Grade 2, Commercial Grade, Pb-Free; DatasheetVersion: ver1.6, Nov-2010; PackageVersion: ver1.3, Oct-2007; PackageReference: FTG256; PackageDescription: 256-Ball Fine Pitch Thin Ball Grid Array 1.00 mm Pitch (FTG256) - Pb-Free; Code_JEDEC: MS-034-AAF-1*; ComponentLink1Description: Manufacturer URL; ComponentLink1URL: http://www.xilinx.com/; ComponentLink2Description: Spartan-6 Datasheet; ComponentLink2URL: http://www.xilinx.com/support/documentation/data_sheets/ds160.pdf; ComponentLink3Description: Spartan-6 Documents; ComponentLink3URL: http://www.xilinx.com/support/documentation/spartan-6.htm
footprint FTG256 (BGA, 256-Leads, Body 17x17mm, Pitch 1mm)
part A pins: A4 IO_L1N_VREF_0 (io), A5 IO_L2N_0 (io), A6 IO_L4N_0 (io), A7 IO_L6N_0 (io), A8 IO_L33N_0 (io), A9 IO_L34N_GCLK18_0 (io), A10 IO_L35N_GCLK16_0 (io), A11 IO_L39N_0 (io), A12 IO_L62N_VREF_0 (io), A13 IO_L63N_SCP6_0 (io), A14 IO_L65N_SCP2_0 (io), B5 IO_L2P_0 (io), B6 IO_L4P_0 (io), B8 IO_L33P_0 (io), B10 IO_L35P_GCLK17_0 (io), B12 IO_L62P_0 (io), B14 IO_L65P_SCP3_0 (io), C4 IO_L1P_HSWAPEN_0 (io), C5 IO_L3N_0 (io), C6 IO_L7N_0 (io), C7 IO_L6P_0 (io), C8 IO_L38N_VREF_0 (io), C9 IO_L34P_GCLK19_0 (io), C10 IO_L37N_GCLK12_0 (io), C11 IO_L39P_0 (io), C13 IO_L63P_SCP7_0 (io), D5 IO_L3P_0 (io), D6 IO_L7P_0 (io), D8 IO_L38P_0 (io), D9 IO_L40N_0 (io), D11 IO_L66P_SCP1_0 (io), D12 IO_L66N_SCP0_0 (io), E6 IO_L5N_0 (io), E7 IO_L36P_GCLK15_0 (io), E8 IO_L36N_GCLK14_0 (io), E10 IO_L37P_GCLK13_0 (io), E11 IO_L64N_SCP4_0 (io), F7 IO_L5P_0 (io), F9 IO_L40P_0 (io), F10 IO_L64P_SCP5_0 (io)
part B pins: B15 IO_L29P_A23_M1A13_1 (io), B16 IO_L29N_A22_M1A14_1 (io), C15 IO_L33P_A15_M1A10_1 (io), C16 IO_L33N_A14_M1A4_1 (io), D14 IO_L31P_A19_M1CKE_1 (io), D16 IO_L31N_A18_M1A12_1 (io), E12 IO_L1N_A24_VREF_1 (io), E13 IO_L1P_A25_1 (io), E15 IO_L34P_A13_M1WE_1 (io), E16 IO_L34N_A12_M1BA2_1 (io), F12 IO_L30P_A21_M1RESET_1 (io), F13 IO_L32P_A17_M1A8_1 (io), F14 IO_L32N_A16_M1A9_1 (io), F15 IO_L35P_A11_M1A7_1 (io), F16 IO_L35N_A10_M1A2_1 (io), G11 IO_L30N_A20_M1A11_1 (io), G12 IO_L38P_A5_M1CLK_1 (io), G14 IO_L36P_A9_M1BA0_1 (io), G16 IO_L36N_A8_M1BA1_1 (io), H11 IO_L38N_A4_M1CLKN_1 (io), H13 IO_L39P_M1A3_1 (io), H14 IO_L39N_M1ODT_1 (io), H15 IO_L37P_A7_M1A0_1 (io), H16 IO_L37N_A6_M1A1_1 (io), J11 IO_L40P_GCLK11_M1A5_1 (io), J12 IO_L40N_GCLK10_M1A6_1 (io), J13 IO_L41P_GCLK9_IRDY1_M1RASN_1 (io), J14 IO_L43P_GCLK5_M1DQ4_1 (io), J16 IO_L43N_GCLK4_M1DQ5_1 (io), K11 IO_L42N_GCLK6_TRDY1_M1LDM_1 (io), K12 IO_L42P_GCLK7_M1UDM_1 (io), K14 IO_L41N_GCLK8_M1CASN_1 (io), K15 IO_L44P_A3_M1DQ6_1 (io), K16 IO_L44N_A2_M1DQ7_1 (io), L12 IO_L53P_1 (io), L13 IO_L53N_VREF_1 (io), L14 IO_L47P_FWE_B_M1DQ0_1 (io), L16 IO_L47N_LDC_M1DQ1_1 (io), M13 IO_L74P_AWAKE_1 (io), M14 IO_L74N_DOUT_BUSY_1 (io), M15 IO_L46P_FCS_B_M1DQ2_1 (io), M16 IO_L46N_FOE_B_M1DQ3_1 (io), N14 IO_L45P_A1_M1LDQS_1 (io), N16 IO_L45N_A0_M1LDQSN_1 (io), P15 IO_L48P_HDC_M1DQ8_1 (io), P16 IO_L48N_M1DQ9_1 (io), R12 IO_L52P_M1DQ14_1 (io), R14 IO_L50P_M1UDQS_1 (io), R15 IO_L49P_M1DQ10_1 (io), R16 IO_L49N_M1DQ11_1 (io), T12 IO_L52N_M1DQ15_1 (io), T13 IO_L51N_M1DQ13_1 (io), T14 IO_L51P_M1DQ12_1 (io), T15 IO_L50N_M1UDQSN_1 (io)
part C pins: L7 IO_L62N_D6_2 (io), L8 IO_L62P_D5_2 (io), L10 IO_L16P_2 (io), M6 IO_L64P_D8_2 (io), M7 IO_L31N_GCLK30_D15_2 (io), M9 IO_L29P_GCLK3_2 (io), M10 IO_L16N_VREF_2 (io), M11 IO_L2N_CMPMOSI_2 (io), M12 IO_L2P_CMPCLK_2 (io), N5 IO_L49P_D3_2 (io), N6 IO_L64N_D9_2 (io), N8 IO_L29N_GCLK2_2 (io), N9 IO_L14P_D11_2 (io), N11 IO_L13P_M1_2 (io), N12 IO_L12P_D1_MISO2_2 (io), P4 IO_L63P_2 (io), P5 IO_L49N_D4_2 (io), P6 IO_L47P_2 (io), P7 IO_L31P_GCLK31_D14_2 (io), P8 IO_L30P_GCLK1_D13_2 (io), P9 IO_L14N_D12_2 (io), P10 IO_L3P_D0_DIN_MISO_MISO1_2 (io), P11 IO_L13N_D10_2 (io), P12 IO_L12N_D2_MISO3_2 (io), R3 IO_L65P_INIT_B_2 (io), R5 IO_L48P_D7_2 (io), R7 IO_L32P_GCLK29_2 (io), R9 IO_L23P_2 (io), R11 IO_L1P_CCLK_2 (io), T3 IO_L65N_CSO_B_2 (io), T4 IO_L63N_2 (io), T5 IO_L48N_RDWR_B_VREF_2 (io), T6 IO_L47N_2 (io), T7 IO_L32N_GCLK28_2 (io), T8 IO_L30N_GCLK0_USERCCLK_2 (io), T9 IO_L23N_2 (io), T10 IO_L3N_MOSI_CSI_B_MISO0_2 (io), T11 IO_L1N_M0_CMPMISO_2 (io)
part D pins: A2 IO_L52N_M3A9_3 (io), A3 IO_L83N_VREF_3 (io), B1 IO_L50N_M3BA2_3 (io), B2 IO_L52P_M3A8_3 (io), B3 IO_L83P_3 (io), C1 IO_L50P_M3WE_3 (io), C2 IO_L48N_M3BA1_3 (io), C3 IO_L48P_M3BA0_3 (io), D1 IO_L49N_M3A2_3 (io), D3 IO_L49P_M3A7_3 (io), E1 IO_L46N_M3CLKN_3 (io), E2 IO_L46P_M3CLK_3 (io), E3 IO_L54N_M3A11_3 (io), E4 IO_L54P_M3RESET_3 (io), F1 IO_L41N_GCLK26_M3DQ5_3 (io), F2 IO_L41P_GCLK27_M3DQ4_3 (io), F3 IO_L53N_M3A12_3 (io), F4 IO_L53P_M3CKE_3 (io), F5 IO_L55N_M3A14_3 (io), F6 IO_L55P_M3A13_3 (io), G1 IO_L40N_M3DQ7_3 (io), G3 IO_L40P_M3DQ6_3 (io), G5 IO_L51N_M3A4_3 (io), G6 IO_L51P_M3A10_3 (io), H1 IO_L39N_M3LDQSN_3 (io), H2 IO_L39P_M3LDQS_3 (io), H3 IO_L44N_GCLK20_M3A6_3 (io), H4 IO_L44P_GCLK21_M3A5_3 (io), H5 IO_L43N_GCLK22_IRDY2_M3CASN_3 (io), J1 IO_L38N_M3DQ3_3 (io), J3 IO_L38P_M3DQ2_3 (io), J4 IO_L42N_GCLK24_M3LDM_3 (io), J6 IO_L43P_GCLK23_M3RASN_3 (io), K1 IO_L37N_M3DQ1_3 (io), K2 IO_L37P_M3DQ0_3 (io), K3 IO_L42P_GCLK25_TRDY2_M3UDM_3 (io), K5 IO_L47P_M3A0_3 (io), K6 IO_L47N_M3A1_3 (io), L1 IO_L36N_M3DQ9_3 (io), L3 IO_L36P_M3DQ8_3 (io), L4 IO_L45P_M3A3_3 (io), L5 IO_L45N_M3ODT_3 (io), M1 IO_L35N_M3DQ11_3 (io), M2 IO_L35P_M3DQ10_3 (io), M3 IO_L1N_VREF_3 (io), M4 IO_L1P_3 (io), M5 IO_L2P_3 (io), N1 IO_L34N_M3UDQSN_3 (io), N3 IO_L34P_M3UDQS_3 (io), N4 IO_L2N_3 (io), P1 IO_L33N_M3DQ13_3 (io), P2 IO_L33P_M3DQ12_3 (io), R1 IO_L32N_M3DQ15_3 (io), R2 IO_L32P_M3DQ14_3 (io)
part E pins: A15 TMS (in), C12 TDI (in), C14 TCK (in), E14 TDO (out), L11 CMPCS_B_2 (in), P13 DONE_2 (io), P14 SUSPEND (in), T2 PROGRAM_B_2 (in)
part F pins: B4 VCCO_0 (power), B9 VCCO_0 (power), B13 VCCO_0 (power), D2 VCCO_3 (power), D7 VCCO_0 (power), D10 VCCO_0 (power), D15 VCCO_1 (power), E5 VCCAUX (power), F8 VCCAUX (power), F11 VCCAUX (power), G4 VCCO_3 (power), G7 VCCINT (power), G9 VCCINT (power), G10 VCCAUX (power), G13 VCCO_1 (power), H6 VCCAUX (power), H8 VCCINT (power), H10 VCCINT (power), J2 VCCO_3 (power), J7 VCCINT (power), J9 VCCINT (power), J10 VCCAUX (power), J15 VCCO_1 (power), K4 VCCO_3 (power), K8 VCCINT (power), K10 VCCINT (power), K13 VCCO_1 (power), L6 VCCAUX (power), L9 VCCAUX (power), N2 VCCO_3 (power), N7 VCCO_2 (power), N10 VCCO_2 (power), N15 VCCO_1 (power), R4 VCCO_2 (power), R8 VCCO_2 (power), R13 VCCO_1 (power)
part G pins: A1 GND (power), A16 GND (power), B7 GND (power), B11 GND (power), D4 GND (power), D13 GND (power), E9 GND (power), G2 GND (power), G8 GND (power), G15 GND (power), H7 GND (power), H9 GND (power), H12 GND (power), J5 GND (power), J8 GND (power), K7 GND (power), K9 GND (power), L2 GND (power), L15 GND (power), M8 GND (power), N13 GND (power), P3 GND (power), R6 GND (power), R10 GND (power), T1 GND (power), T16 GND (power)
part A text: BANK 0
part B text: BANK 1
part C text: BANK 2
part D text: BANK 3

## XC6219
designator U?
XC6219 300mA (>1.8V 240mA, <1.75V 150mA)Low-Noise CMOS LDO
footprint SOT23-5
pins: 1 Vin "Power Supply", 2 GND (power) "Ground", 3 EN "Enable Pin", 4 BYP "Bypass Signal Pin", 5 Vout (power) "Output"

## XC9216
designator U?
500mA Synchronous Step-Down DC/DC Converters
footprint SOT23-5 (SOT-23/SC-74A; 5 Leads; Body 3 x 3 mm, inc. leads (LxW max))
pins: 1 VIN "Power Input", 2 GND "Ground", 3 EN "Chip Enable Mode Switch", 4 VOUT "Output Voltage Sense", 5 LX "Switching Output"

## XC9235
designator U?
600mA Driver Tr. Built-In, Sync  hronous Step-Down DC/DC Converters
footprint SOT23-5 (SOT-23/SC-74A; 5 Leads; Body 3 x 3 mm, inc. leads (LxW max))
pins: 1 VIN "Power Input", 2 GND "Ground", 3 EN "Chip Enable Mode Switch", 4 VOUT "Output Voltage Sense", 5 LX "Switching Output"

## XFS5152
designator U?
footprint LQFP64_M (Thin QFP, 64-Leads, Body 10x10mm, Pitch 0.5mm, IPC Low Density)
pins: 1 VDD12, 2 UVCC, 3 RREF, 4 GND, 5 NC, 6 NC, 7 AVCC, 8 AO_P, 9 AO_N, 10 AGND, 11 VCM, 12 MIC_Bias, 13 MIC_N, 14 AGND, 15 MIC_P, 16 F_D0, 17 AVCC, 18 VREF, 19 NC, 20 PWR_IN, 21 F_D1, 22 VDD33_O, 23 VDD12_O, 24 AVDD12, 25 GND, 26 XTAL_I, 27 XTAL_O, 28 RESET, 29 A4, 30 NC, 31 NC, 32 NC, 33 NC, 34 NC, 35 NC, 36 VDD33, 37 GND, 38 NC, 39 RXD, 40 RDY, 41 TXD, 42 SPI_CLK, 43 SPI_SSEL, 44 SPI_SI, 45 SPI_SO, 46 VDD33, 47 IIC_SCL, 48 IIC_SDA, 49 M_D2, 50 F_D2, 51 F_D3, 52 GND, 53 A1, 54 A2, 55 BAUD2, 56 BAUD1, 57 M_D0, 58 NC, 59 M_D3, 60 M_D1, 61 NC, 62 A3, 63 NC, 64 GND

## XR2203
designator U?
XR2203, 1.2MHZ，26V Step-up DC/DC Converter
footprint SOT23-5 (SOT-23/SC-74A; 5 Leads; Body 3 x 3 mm, inc. leads (LxW max))
pins: 1 SW "Switch pin", 2 GND "Power ground", 3 FB "Feedback pin", 4 EN "Shutdown control input., Connect this pin to logic high level to enable the device", 5 VDD "Input power supply pin"

## XT60PW
designator *
footprint XT60PW-M
pins: 1, 2

## XTAL
designator Y?
footprint 5032
pins: 1 P1, 2 P2

## XTAL_32768
designator Y?
footprint MC-146 (32.768Khz晶振)
footprint MC-306
pins: 1, 2, 3, 4

## 拨码开关-2位
designator SW?
footprint 拨码开关-2位-2.54mm-直插
pins: 1, 2, 3, 4
text: ON

## 拨码开关-4位
designator SW?
footprint 拨码开关-4位-2.54mm-贴片
pins: 1, 2, 3, 4, 5, 6, 7, 8
text: ON

## 整流桥堆-150mil
designator U?
footprint 整流桥堆-150mil
pins: 1 V+, 2 AC1, 3 AC2, 4 V-

## 整流桥堆-200mil
designator U?
footprint 整流桥堆-200mil
pins: 1 V+, 2 AC1, 3 AC2, 4 V-

## 整流桥堆-圆
designator U?
pins: 1 V+, 2 AC1, 3 AC2, 4 V-

## 普通继电器-18x15mm
designator Relay?
pins: 1, 2, 3, 4, 5

## 模拟开关-SGM4717YMS
designator U?
footprint 模拟开关-SGM4717YMS
part A pins: 1 V+, 2 NO1, 3 COM1, 4 IN1, 5 NC1, 6 GND
part B pins: 7 NC2, 8 IN2, 9 COM2, 10 NO2

## 测试断点-40mil
designator T?
两个月牙形焊盘.默认断开状态,需要连接时可以焊接到一起.
footprint 测试断点-40mil
pins: 1, 2

## 电源模块-CHB350
designator U?
footprint 电源模块-CHB350
pins: 1 +Vin, 2 ON/OFF, 3 Case, 4 -Vin, 5 -Vout, 6 -Sense, 7 Trim, 8 +Sense, 9 +Vout, 10 SHELL, 11 SHELL, 12 SHELL, 13 SHELL

## 电源模块-CQB150W
designator U?
footprint 电源模块-CQB150W
pins: 1 +Vin, 2 ON/OFF, 3 -Vin, 4 -Vout, 5 -Sense, 6 Trim, 7 +Sense, 8 +Vout, 9 SHELL, 10 SHELL

## 电源模块-EC3SA
designator *
footprint 电源模块-EC3SA-底座
pins: 1 -Vin, 2 +Vin, 3 On/Off, 5 NC, 6 +Vo, 7 -Vo, 8 NC

## 电源模块-EC5SBW
designator U?
footprint 电源模块-EC5SBW
footprint 电源模块-EC5SBW - 底座
pins: 1 +Vin, 2 -Vin, 3 +Vout, 4 Trim, 5 -Vout, 6 ON/OFF

## 电源模块-ECLB60
designator U?
footprint 电源模块-ECLB60
pins: 1 +Vin, 2 -Vin, 3 +Vout, 4 Trim, 5 -Vout, 6 ON/OFF

## 电源模块-IQ24
designator U?
footprint 电源模块-IQ24
footprint 电源模块-IQ24-底座
pins: 1 +Vin, 2 ON/OFF, 3 -Vin, 4 -Vout, 5 -Sense, 6 Trim, 7 +Sense, 8 +Vout

## 电源模块-Vicor
designator U?
footprint 电源模块-VICOR
pins: 1 +IN, 2 PC, 3 PR, 4 -IN, 5 -OUT, 6 SC, 7 +OUT, 8, 9, 10, 11 8, 12 8, 13 8

## 贴片隧道二极管
designator D?
pins: 1 A, 2 K